# Altium schematic symbol library NRF24LU1P-F32Q32-T.SchLib: 1 symbol
Pins are listed as number, name and electrical type; pins without a type are passive.

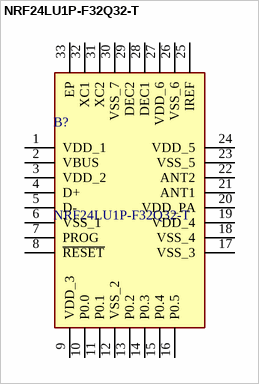
[diagram p0: symbol NRF24LU1P-F32Q32-T]

## NRF24LU1P-F32Q32-T
designator B?
Nordic Semiconductor NRF24LU1P-F32Q32-T, 8 bit System On Chip SOC for Compact USB Dongles for Wireless Peripherals,; Geometry.Height: 0.95mm; Mouser Part Number: 949-NRF24LU1PF3232T; Mouser Price/Stock: https://www.mouser.co.uk/ProductDetail/Nordic-Semiconductor/nRF24LU1P-F32Q32-T?qs=yd0qOhnSiDcwp9bBOHQXig%3D%3D; Manufacturer_Name: Nordic Semiconductor; Manufacturer_Part_Number: NRF24LU1P-F32Q32-T; Datasheet Link: https://componentsearchengine.com/Datasheets/1/nRF24LU1P-F32Q32-T.pdf
footprint QFN50P500X500X95-33N-D
pins: 1 VDD_1, 2 VBUS, 3 VDD_2, 4 D+, 5 D-, 6 VSS_1, 7 PROG, 8 ~{RESET}, 9 VDD_3, 10 P0.0, 11 P0.1, 12 VSS_2, 13 P0.2, 14 P0.3, 15 P0.4, 16 P0.5, 17 VSS_3, 18 VSS_4, 19 VDD_4, 20 VDD_PA, 21 ANT1, 22 ANT2, 23 VSS_5, 24 VDD_5, 25 IREF, 26 VSS_6, 27 VDD_6, 28 DEC1, 29 DEC2, 30 VSS_7, 31 XC2, 32 XC1, 33 EP